# Altium schematic symbol library Schlib_switch.SchLib: 1 symbol
Pins are listed as number, name and electrical type; pins without a type are passive.

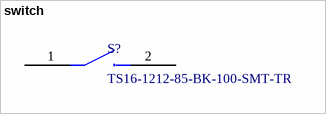
[diagram p0: symbol switch]

## switch
designator S?, comment TS16-1212-85-BK-100-SMT-TR
50mA Standing paste SPST - normally open 100gf 12V Tactile Switches ROHS; manufactor: CUI; ComponentLink1Description: snapeda; ComponentLink1URL: https://www.snapeda.com/parts/TS16-1212-85-BK-100-SMT-TR/CUI%20Devices/view-part/?ref=search&t=switch%20smd; ComponentLink2Description: datasheet; ComponentLink2URL: https://www.snapeda.com/parts/TS16-1212-85-BK-100-SMT-TR/CUI%20Devices/datasheet/; manufactor part time: TS16-1212-85-BK-100-SMT-TR; supplier: LCSC; supplier part number: C6338790
footprint PCBComponent_1
pins: 1, 2